# Altium footprint library QSOP.PcbLib: 1 footprints
Each footprint in its own frame and in the unit in brackets; x right, y up, seen from the top. Pads: shape width x height; smd on the part's side, far side on the other; paste and mask are expansions set on the pad; w line width, h text height; cw(c..) or ccw(c..) is an arc to the next point about the centre after c.
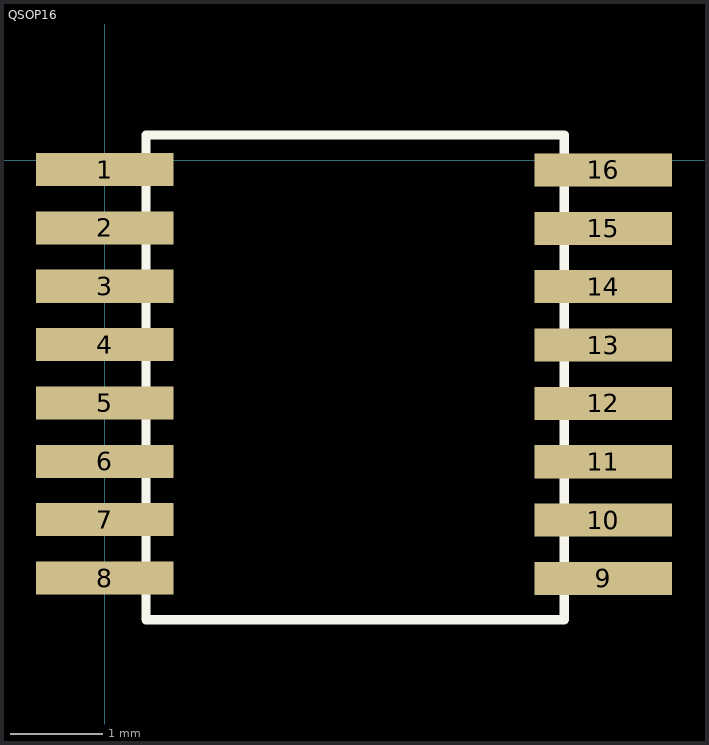
[diagram p0: the footprint, top view; thin cyan lines are the x and y axes]

## QSOP16 [mm]
pads (16):
  rect 1.5x0.36 smd: 1(0,-0.1) 2(0,-0.735) 3(0,-1.37) 4(0,-2.005) 5(0,-2.64) 6(0,-3.275) 7(0,-3.91) 8(0,-4.545) 9(5.425,-4.55) 10(5.425,-3.915) 11(5.425,-3.28) 12(5.425,-2.645) 13(5.425,-2.01) 14(5.425,-1.375) 15(5.425,-0.74) 16(5.425,-0.105)
Top Overlay:
  lines w0.1: 0.45,-5 0.45,0.275 5,0.275 5,-5 0.45,-5